# Altium schematic symbol library H-Bridge.SchLib: 1 symbol
Pins are listed as number, name and electrical type; pins without a type are passive.

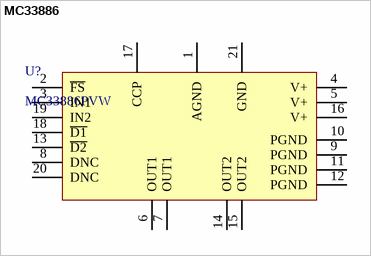
[diagram p0: symbol MC33886]

## MC33886
designator U?, comment MC33886PVW
全桥驱动器
footprint HSOP20
pins: 1 AGND, 2 ~{FS}, 3 IN1, 4 V+, 5 V+, 6 OUT1, 7 OUT1, 8 DNC, 9 PGND, 10 PGND, 11 PGND, 12 PGND, 13 ~{D2}, 14 OUT2, 15 OUT2, 16 V+, 17 CCP, 18 ~{D1}, 19 IN2, 20 DNC, 21 GND